# Altium footprint library LED_3MM_BICOLOR_RT_321.PcbLib: 1 footprints
Each footprint in its own frame and in the unit in brackets; x right, y up, seen from the top. Pads: shape width x height; smd on the part's side, far side on the other; paste and mask are expansions set on the pad; w line width, h text height; cw(c..) or ccw(c..) is an arc to the next point about the centre after c.
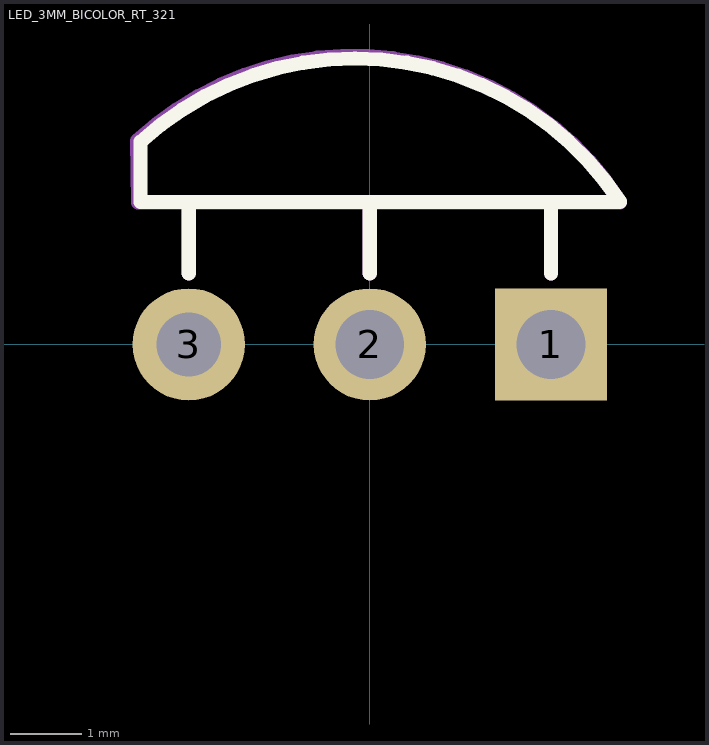
[diagram p0: the footprint, top view; thin cyan lines are the x and y axes]

## LED_3MM_BICOLOR_RT_321 [mil] "Bi-color LED right-angle.  Pin configuration 321"
pads (3):
  rect 62x62 hole 38: 1(100,0)
  round 62 hole 38: 2(0,0)
  round 62 hole 35.4: 3(-100,0)
Top Overlay:
  lines w7.87: -126.62,112.06 -126.62,78.73 138,78.73 ; -126.39,112.06 cw(c-8.27,-17.07) 138,79 ; -100,39.37 -100,78.73 ; 0,39.37 0,78.73 ; 100,39.37 100,78.73
Mechanical 1:
  lines w7.87: -100,39.37 -100,78.73 ; 0,39.37 0,78.73 ; 100,39.37 100,78.73 ; 138,78.33 -128,78.33 -128.4,112.56 cw(c-9.23,-15.6) 138,79